# Altium footprint library myLIB.PcbLib: 150 footprints (part 7 of 10)
Each footprint in its own frame and in the unit in brackets; x right, y up, seen from the top. Pads: shape width x height; smd on the part's side, far side on the other; paste and mask are expansions set on the pad; w line width, h text height; cw(c..) or ccw(c..) is an arc to the next point about the centre after c.
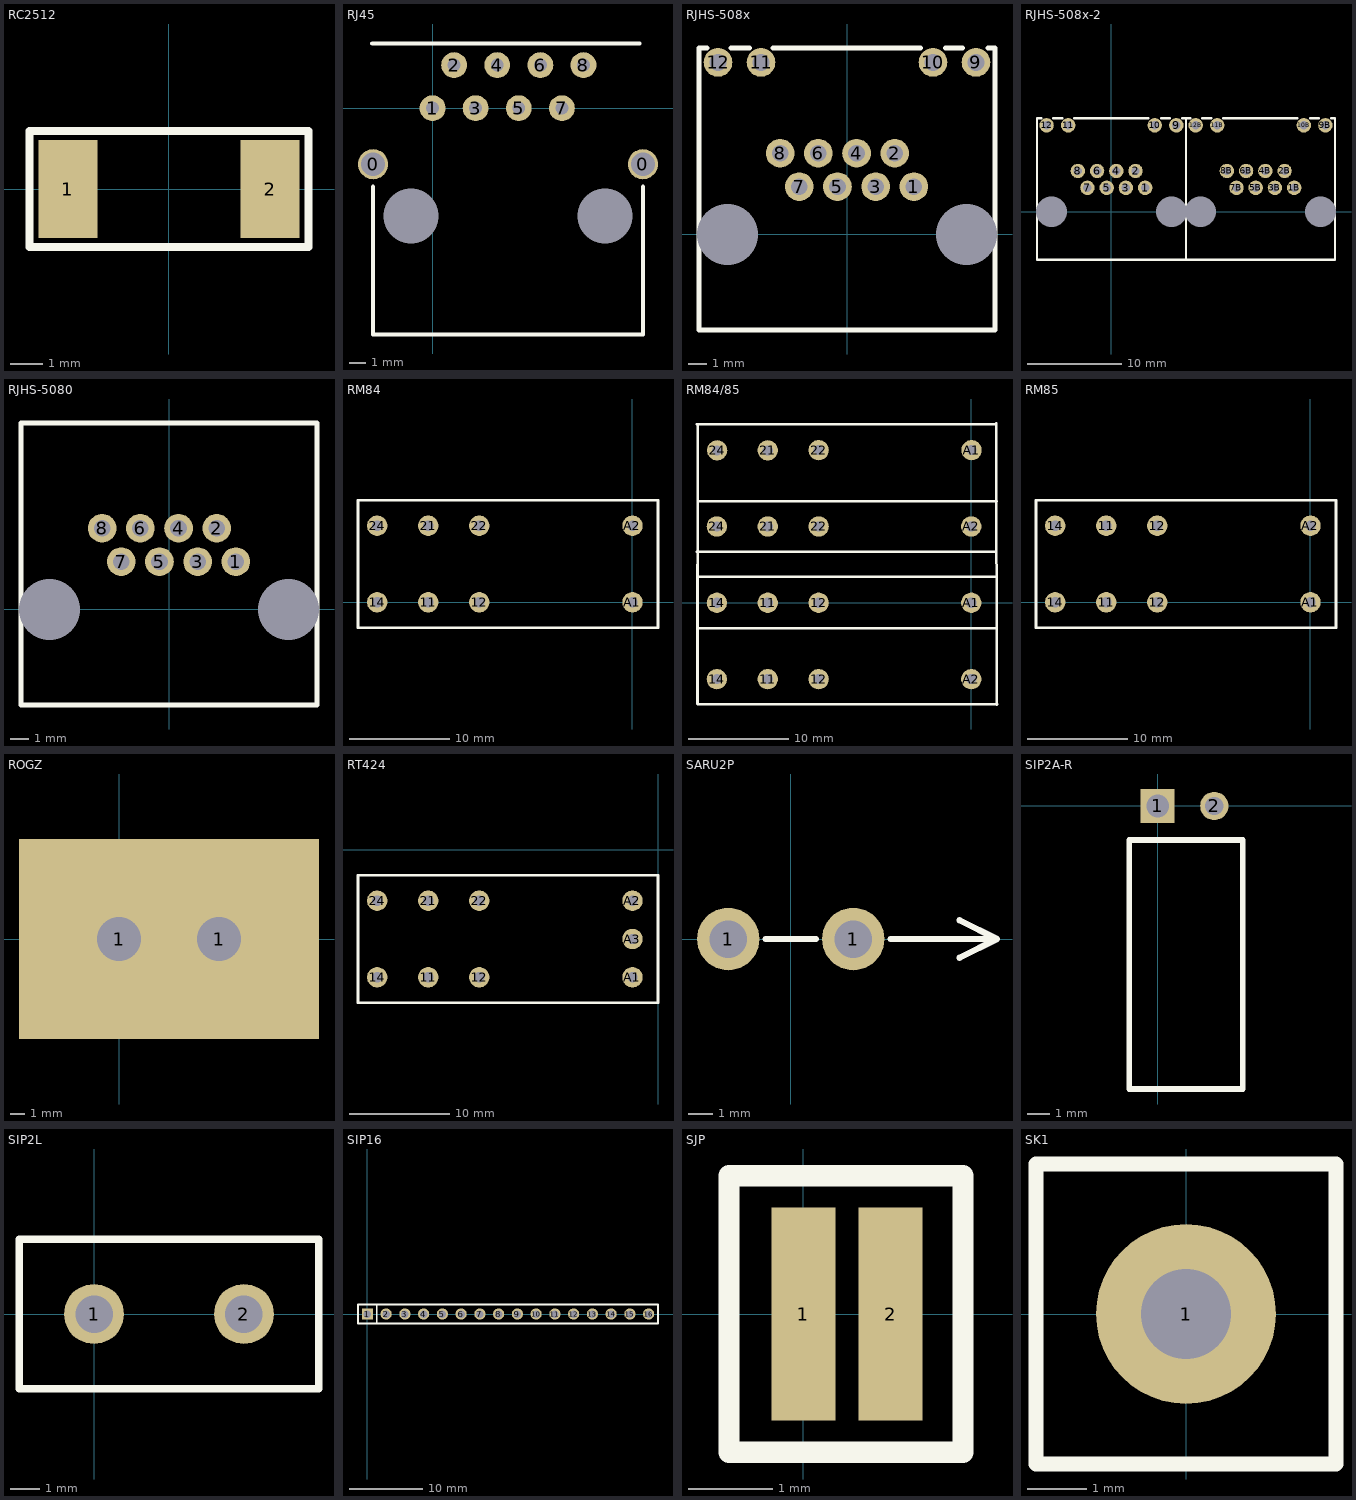
[diagram p6: the footprints below, top view; thin cyan lines are the x and y axes]

## RC2512 [mm]
pads (2):
  rect 1.8x3 smd: 1(-3.1,0) 2(3.1,0)
TopOverlay:
  lines w0.254: -4.278,-1.778 -4.278,1.778 4.278,1.778 4.278,-1.778 -4.278,-1.778

## RJ45 [mil]
pads (12):
  round 70 hole 55: 0(-138,-130) 0(488,-130)
  round 0 hole 128: 0(-50,-250) 0(400,-250)
  round 60 hole 30: 1(0,0) 2(50,100) 3(100,0) 4(150,100) 5(200,0) 6(250,100) 7(300,0) 8(350,100)
TopOverlay:
  lines w10: -140,150 480,150 ; -138,-182 -138,-525 488,-525 488,-182

## RJHS-508x [mil] "RJ45 2 LED"
height 520
pads (14):
  round 0 hole 128: 0(-250,0) 0(250,0)
  round 60 hole 35: 1(140,100) 2(100,170) 3(60,100) 4(20,170) 5(-20,100) 6(-60,170) 7(-100,100) 8(-140,170) 9(270,360) 10(180,360) 11(-180,360) 12(-270,360)
TopOverlay:
  lines w10: -293,390 -310,390 -310,-200 310,-200 310,390 295,390 ; -243,390 -204,390 ; -155,390 154,390 ; 206,390 242,390

## RJHS-508x-2 [mil]
pads (28):
  round 0 hole 128: 0(-250,0) 0(250,0) 0(370,0) 0(870,0)
  round 60 hole 35: 1(140,100) 1B(760,100) 2(100,170) 2B(720,170) 3(60,100) 3B(680,100) 4(20,170) 4B(640,170) 5(-20,100) 5B(600,100) 6(-60,170) 6B(560,170) 7(-100,100) 7B(520,100) 8(-140,170) 8B(480,170) 9(270,360) 9B(890,360) 10(180,360) 10B(800,360) 11(-180,360) 11B(440,360) 12(-270,360) 12B(350,360)
TopOverlay:
  lines w10: -293,390 -310,390 -310,-200 310,-200 ; -243,390 -204,390 ; -155,390 154,390 ; 206,390 242,390 ; 295,390 310,390 327,390 ; 310,389 310,-200 ; 377,390 416,390 ; 465,390 774,390 ; 826,390 862,390 ; 915,390 930,390 930,-200 310,-200

## RJHS-5080 [mil]
pads (10):
  round 0 hole 128: 0(-250,0) 0(250,0)
  round 60 hole 35: 1(140,100) 2(100,170) 3(60,100) 4(20,170) 5(-20,100) 6(-60,170) 7(-100,100) 8(-140,170)
TopOverlay:
  lines w10: -310,-200 310,-200 310,390 -310,390 -310,-200

## RM84 [mil]
pads (8):
  round 80 hole 40: 11(-800,0) 12(-600,0) 14(-1000,0) 21(-800,300) 22(-600,300) 24(-1000,300) A1(0,0) A2(0,300)
TopOverlay:
  lines w10: -1075,-100 100,-100 100,400 -1075,400 -1075,-100

## RM84/85 [mil]
pads (16):
  round 80 hole 40: 11(-800,-300) 11(-800,0) 12(-600,-300) 12(-600,0) 14(-1000,-300) 14(-1000,0) 21(-800,300) 21(-800,599) 22(-600,300) 22(-600,600) 24(-1000,300) 24(-999,599) A1(0,0) A1(1,600) A2(0,-300) A2(0,300)
TopOverlay:
  lines w10: -1078,200 97,200 ; -1078,701 97,701 ; -1076,-396 -1075,701 ; -1076,102 99,102 ; -1075,-100 100,-100 ; -1075,400 100,400 ; -1074,-399 101,-399 ; 98,706 100,-401

## RM85 [mil]
pads (8):
  round 80 hole 40: 11(-800,0) 11(-800,300) 12(-600,0) 12(-600,300) 14(-1000,0) 14(-1000,300) A1(0,0) A2(0,300)
TopOverlay:
  lines w10: -1075,-100 100,-100 100,400 -1075,400 -1075,-100

## ROGZ [mm]
pads (2):
  rect 14x14 hole 3.048: 1(0,0) 1(7,0)
BottomOverlay:
  lines w0.254: -7,-7 14,-7 14,7 -7,7 -7,-7

## RT424 [mil]
pads (9):
  round 80 hole 40: 11(-900,-500) 12(-700,-500) 14(-1100,-500) 21(-900,-200) 22(-700,-200) 24(-1100,-200) A1(-100,-500) A2(-100,-200) A3(-100,-350)
TopOverlay:
  lines w10: -1175,-600 -1175,-100 0,-100 0,-600 -1175,-600

## SARU2P [mil]
pads (2):
  round 100 hole 60: 1(-100,0) 1(100,0)
TopOverlay:
  lines w10: -40,0 40,0 ; 160,0 330,0 ; 270,-30 330,0 ; 270,30 330,0

## SIP2A-R [mil]
pads (2):
  rect 60x60 hole 40: 1(0,0)
  round 50 hole 32: 2(100,0)
TopOverlay:
  lines w10: -50,-500 -50,-60 150,-60 150,-500 -50,-500

## SIP2L [mil]
pads (2):
  round 80 hole 50: 1(0,0) 2(200,0)
TopOverlay:
  lines w10: -100,-100 -100,100 0,100 200,100 300,100 300,-100 200,-100 0,-100 -100,-100

## SIP16 [mil]
pads (16):
  rect 60x60 hole 40: 1(0,0)
  round 60 hole 40: 2(100,0) 3(200,0) 4(300,0) 5(400,0) 6(500,0) 7(600,0) 8(700,0) 9(800,0) 10(900,0) 11(1000,0) 12(1100,0) 13(1200,0) 14(1300,0) 15(1400,0) 16(1500,0)
TopOverlay:
  lines w10: 50,-50 50,50 ; -50,-50 -50,50 1550,50 1550,-50 -50,-50

## SJP [mil]
pads (2):
  rect 30x100 smd: 1(0,0) 2(41,0)
TopOverlay:
  lines w10: -35,-65 -35,65 75,65 75,-65 -35,-65

## SK1 [mil]
pads (1):
  round 120 hole 60: 1(0,0)
TopOverlay:
  lines w10: -100,-100 -100,100 100,100 100,-100 -100,-100